# EAGLE library part MA06-2 (library 000001)
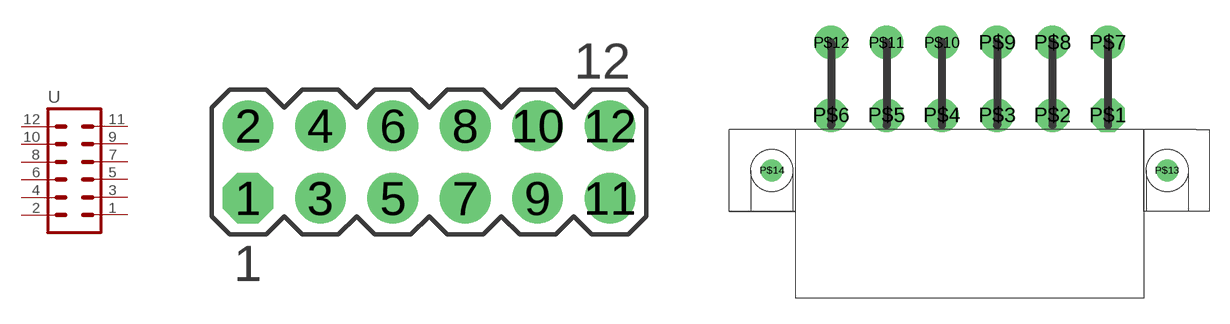
[diagram p24: symbol with the pads of MA06-2; footprints MA06-2, MOLEX_5569]

Designator prefix -

## MA06-2  [MA06-2]
1  7A  pas
2  1  pas
3  8A  pas
4  2  pas
5  9A  pas
6  3  pas
7  10A  pas
8  4  pas
9  11  pas
10  5  pas
11  12  pas
12  6  pas

## MA06-2M  [MOLEX_5569]
P$1  1  pas
P$2  2  pas
P$3  3  pas
P$4  4  pas
P$5  5  pas
P$6  6  pas
P$7  7A  pas
P$8  8A  pas
P$9  9A  pas
P$10  10A  pas
P$11  11  pas
P$12  12  pas

## Footprint MA06-2 (pad centres in mm)
drill 0.9 pad 1.778 octagon: 1 -6.35,-1.27
drill 0.9 pad 1.778 round: 2 -6.35,1.27; 3 -3.81,-1.27; 4 -3.81,1.27; 5 -1.27,-1.27; 6 -1.27,1.27; 7 1.27,-1.27; 8 1.27,1.27; 9 3.81,-1.27; 10 3.81,1.27; 11 6.35,-1.27; 12 6.35,1.27

## Footprint MOLEX_5569 (pad centres in mm)
drill 0.7 pad 2.54 octagon: P$1 10.16,3.81
drill 0.7 pad 2.54 round: P$2 5.969,3.81; P$3 1.778,3.81; P$4 -2.413,3.81; P$5 -6.604,3.81; P$6 -10.795,3.81; P$7 10.16,9.322; P$8 5.969,9.322; P$9 1.778,9.322; P$10 -2.413,9.322; P$11 -6.604,9.322; P$12 -10.795,9.322
drill 0.5 pad 1.676 round: P$13 14.656,-0.381; P$14 -15.291,-0.381